# EAGLE library part MT48LC4M16A2 (library ICs)
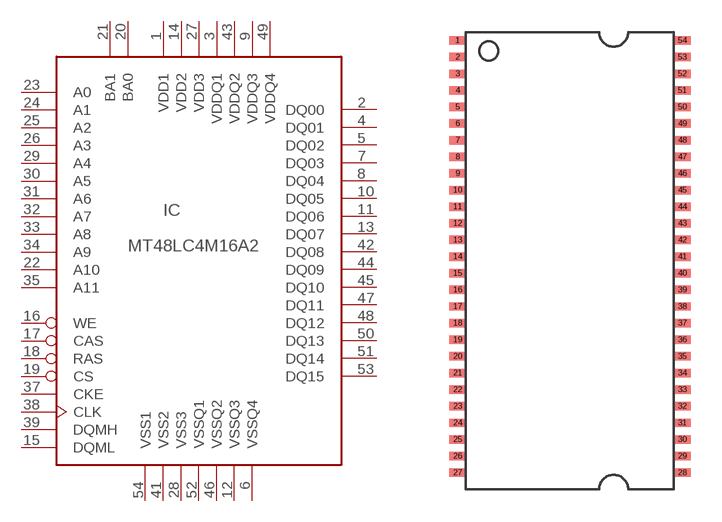
[diagram p2: symbol with the pads of TSOP54; footprint TSOP54]

Designator prefix IC

## MT48LC4M16A2TSOP54  [TSOP54]
1  VDD1  pwr
2  DQ00
3  VDDQ1  pwr
4  DQ01
5  DQ02
6  VSSQ4  pwr
7  DQ03
8  DQ04
9  VDDQ3  pwr
10  DQ05
11  DQ06
12  VSSQ3  pwr
13  DQ07
14  VDD2  pwr
15  DQML  in
16  WE  in
17  CAS  in
18  RAS  in
19  CS  in
20  BA0  in
21  BA1  in
22  A10  in
23  A0  in
24  A1  in
25  A2  in
26  A3  in
27  VDD3  pwr
28  VSS3  pwr
29  A4  in
30  A5  in
31  A6  in
32  A7  in
33  A8  in
34  A9  in
35  A11  in
37  CKE  in
38  CLK  in
39  DQMH  in
41  VSS2  pwr
42  DQ08
43  VDDQ2  pwr
44  DQ09
45  DQ10
46  VSSQ2  pwr
47  DQ11
48  DQ12
49  VDDQ4  pwr
50  DQ13
51  DQ14
52  VSSQ1  pwr
53  DQ15
54  VSS1  pwr

## Footprint TSOP54 (pad centres in mm)
smd 0.813 x 0.406: 1 -5.4,9.6; 2 -5.4,8.8; 3 -5.4,8; 4 -5.4,7.2; 5 -5.4,6.4; 6 -5.4,5.6; 7 -5.4,4.8; 8 -5.4,4; 9 -5.4,3.2; 10 -5.4,2.4; 11 -5.4,1.6; 12 -5.4,0.8; 13 -5.4,0; 14 -5.4,-0.8; 15 -5.4,-1.6; 16 -5.4,-2.4; 17 -5.4,-3.2; 18 -5.4,-4; 19 -5.4,-4.8; 20 -5.4,-5.6; 21 -5.4,-6.4; 22 -5.4,-7.2; 23 -5.4,-8; 24 -5.4,-8.8; 25 -5.4,-9.6; 26 -5.4,-10.4; 27 -5.4,-11.2; 28 5.4,-11.2; 29 5.4,-10.4; 30 5.4,-9.6; 31 5.4,-8.8; 32 5.4,-8; 33 5.4,-7.2; 34 5.4,-6.4; 35 5.4,-5.6; 36 5.4,-4.8; 37 5.4,-4; 38 5.4,-3.2; 39 5.4,-2.4; 40 5.4,-1.6; 41 5.4,-0.8; 42 5.4,0; 43 5.4,0.8; 44 5.4,1.6; 45 5.4,2.4; 46 5.4,3.2; 47 5.4,4; 48 5.4,4.8; 49 5.4,5.6; 50 5.4,6.4; 51 5.4,7.2; 52 5.4,8; 53 5.4,8.8; 54 5.4,9.6